# EAGLE library part THAT4301 (library that-corp)
THAT Analog Engine® IC Dynamics Processor
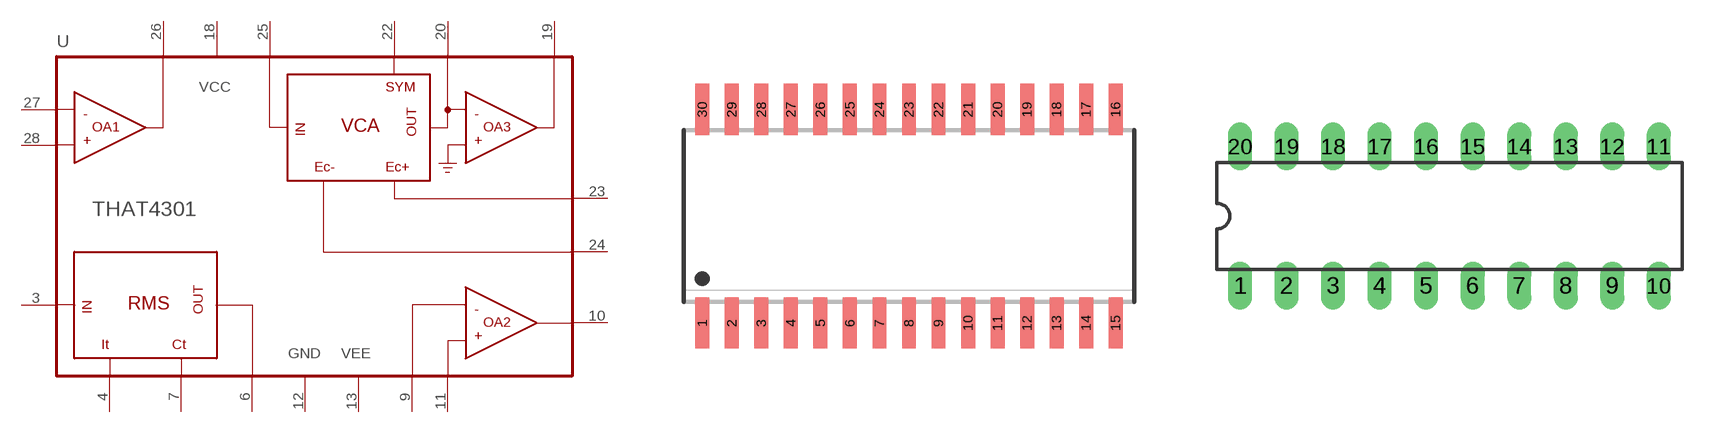
[diagram p3: symbol with the pads of SO30W; footprints SO30W, DIL20]

Designator prefix U

## THAT4301M30-I  [SO30W]
3  RMS_IN  in
4  IT  pas
6  RMS_OUT  out
7  CT  pas
9  OA2_-IN
10  OA2_OUT  out
11  OA2_+IN
12  GND  pwr
13  VEE  pwr
18  VCC  pwr
19  OA3_OUT  out
20  VCA_OUT  pas
22  SYM  pas
23  EC+  pas
24  EC-  pas
25  VCA_IN  in
26  OA1_OUT  out
27  OA1_-IN  in
28  OA1_+IN  in

## THAT4301P20-I  [DIL20]
1  RMS_IN  in
2  IT  pas
4  RMS_OUT  out
5  CT  pas
6  OA2_-IN
7  OA2_OUT  out
8  OA2_+IN
9  GND  pwr
10  VEE  pwr
11  VCC  pwr
12  OA3_OUT  out
13  VCA_OUT  pas
14  SYM  pas
15  EC+  pas
16  EC-  pas
17  VCA_IN  in
18  OA1_OUT  out
19  OA1_-IN  in
20  OA1_+IN  in

## Footprint SO30W (pad centres in mm)
SMALL OUTLINE INTEGRATED CIRCUIT wide body 7.5 mm
smd 0.6 x 2.2: 1 -8.89,-4.6; 2 -7.62,-4.6; 3 -6.35,-4.6; 4 -5.08,-4.6; 5 -3.81,-4.6; 6 -2.54,-4.6; 7 -1.27,-4.6; 8 0,-4.6; 9 1.27,-4.6; 10 2.54,-4.6; 11 3.81,-4.6; 12 5.08,-4.6; 13 6.35,-4.6; 14 7.62,-4.6; 15 8.89,-4.6; 16 8.89,4.6; 17 7.62,4.6; 18 6.35,4.6; 19 5.08,4.6; 20 3.81,4.6; 21 2.54,4.6; 22 1.27,4.6; 23 0,4.6; 24 -1.27,4.6; 25 -2.54,4.6; 26 -3.81,4.6; 27 -5.08,4.6; 28 -6.35,4.6; 29 -7.62,4.6; 30 -8.89,4.6

## Footprint DIL20 (pad centres in mm)
Dual In Line Package
drill 0.813 long: 1 -11.43,-3.81; 2 -8.89,-3.81; 3 -6.35,-3.81; 4 -3.81,-3.81; 5 -1.27,-3.81; 6 1.27,-3.81; 7 3.81,-3.81; 8 6.35,-3.81; 9 8.89,-3.81; 10 11.43,-3.81; 11 11.43,3.81; 12 8.89,3.81; 13 6.35,3.81; 14 3.81,3.81; 15 1.27,3.81; 16 -1.27,3.81; 17 -3.81,3.81; 18 -6.35,3.81; 19 -8.89,3.81; 20 -11.43,3.81